# EAGLE library part CMODA7 (library FT74xx)
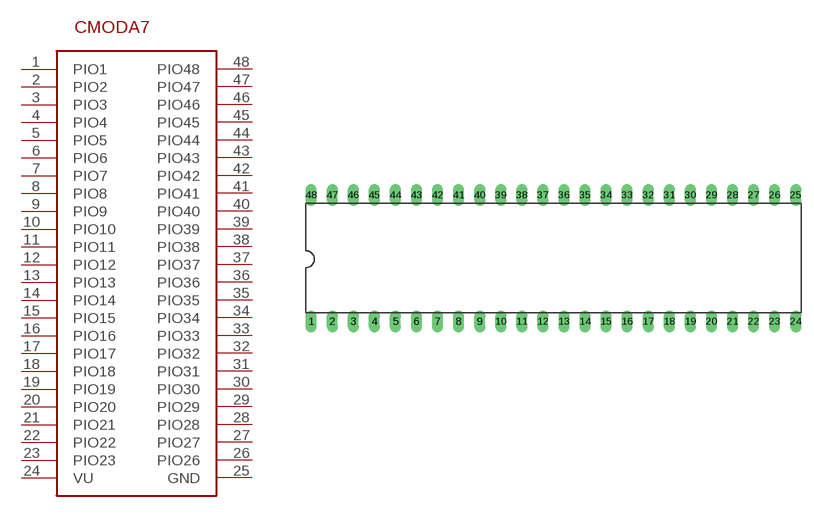
[diagram p331: symbol with the pads of DIL48; footprint DIL48]

Designator prefix -

## CMODA7  [DIL48]
1  PIO1
2  PIO2
3  PIO3
4  PIO4
5  PIO5
6  PIO6
7  PIO7
8  PIO8
9  PIO9
10  PIO10
11  PIO11
12  PIO12
13  PIO13
14  PIO14
15  PIO15
16  PIO16
17  PIO17
18  PIO18
19  PIO19
20  PIO20
21  PIO21
22  PIO22
23  PIO23
24  VU  pwr
25  GND  pwr
26  PIO26
27  PIO27
28  PIO28
29  PIO29
30  PIO30
31  PIO31
32  PIO32
33  PIO33
34  PIO34
35  PIO35
36  PIO36
37  PIO37
38  PIO38
39  PIO39
40  PIO40
41  PIO41
42  PIO42
43  PIO43
44  PIO44
45  PIO45
46  PIO46
47  PIO47
48  PIO48

## Footprint DIL48 (pad centres in mm)
Dual In Line Package
drill 0.813 long: 1 -29.21,-7.62; 2 -26.67,-7.62; 3 -24.13,-7.62; 4 -21.59,-7.62; 5 -19.05,-7.62; 6 -16.51,-7.62; 7 -13.97,-7.62; 8 -11.43,-7.62; 9 -8.89,-7.62; 10 -6.35,-7.62; 11 -3.81,-7.62; 12 -1.27,-7.62; 13 1.27,-7.62; 14 3.81,-7.62; 15 6.35,-7.62; 16 8.89,-7.62; 17 11.43,-7.62; 18 13.97,-7.62; 19 16.51,-7.62; 20 19.05,-7.62; 21 21.59,-7.62; 22 24.13,-7.62; 23 26.67,-7.62; 24 29.21,-7.62; 25 29.21,7.62; 26 26.67,7.62; 27 24.13,7.62; 28 21.59,7.62; 29 19.05,7.62; 30 16.51,7.62; 31 13.97,7.62; 32 11.43,7.62; 33 8.89,7.62; 34 6.35,7.62; 35 3.81,7.62; 36 1.27,7.62; 37 -1.27,7.62; 38 -3.81,7.62; 39 -6.35,7.62; 40 -8.89,7.62; 41 -11.43,7.62; 42 -13.97,7.62; 43 -16.51,7.62; 44 -19.05,7.62; 45 -21.59,7.62; 46 -24.13,7.62; 47 -26.67,7.62; 48 -29.21,7.62